# EAGLE library part RASPBERRY-PI_REV2 (library RaspberryPi)
Raspberry Pi Board <http://www.raspberrypi.org/> Jacques Lagnel V1.0 (beta) 2012 Mateusz Bawaj V1.1 (beta) 2012 Board dimension: Forum 3D model <http://www.raspberrypi.org/forum/general-discussion/mechanical-profile-3d-models?value=3d%20model&type=1&include=1&search=1&ret=all> The GPIO Connector (P1): http://elinux.org/RPi_Low-level_peripherals The GPIO Connector (P5): http://www.raspberrypi-spy.co.uk/2012/09/raspberry-pi-p5-header/
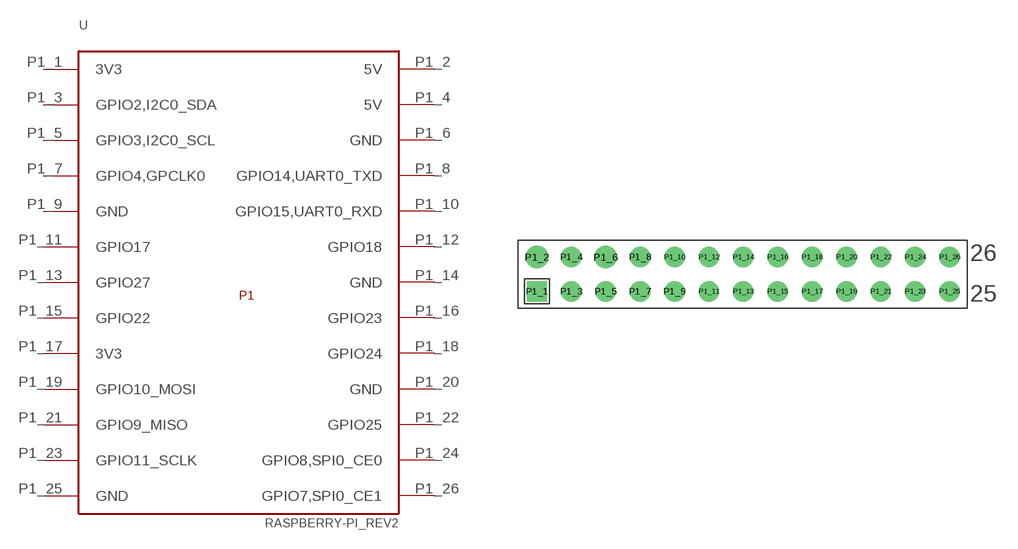
[diagram p0: symbol with the pads of RASPBERRY-PI_REV2; footprint RASPBERRY-PI_REV2]

Designator prefix -

## RASPBERRY-PI_REV2  [RASPBERRY-PI_REV2]
P1_1  3V3
P1_2  5V
P1_3  GPIO2,I2C0_SDA
P1_4  5V
P1_5  GPIO3,I2C0_SCL
P1_6  GND
P1_7  GPIO4,GPCLK0
P1_8  GPIO14,UART0_TXD
P1_9  GND
P1_10  GPIO15,UART0_RXD
P1_11  GPIO17
P1_12  GPIO18
P1_13  GPIO27
P1_14  GND
P1_15  GPIO22
P1_16  GPIO23
P1_17  3V3
P1_18  GPIO24
P1_19  GPIO10_MOSI
P1_20  GND
P1_21  GPIO9_MISO
P1_22  GPIO25
P1_23  GPIO11_SCLK
P1_24  GPIO8,SPI0_CE0
P1_25  GND
P1_26  GPIO7,SPI0_CE1

## Footprint RASPBERRY-PI_REV2 (pad centres in mm)
drill 1 square: P1_1 -17.78,-1.27
drill 1 pad 1.676: P1_2 -17.78,1.27; P1_6 -12.7,1.27
drill 1: P1_3 -15.24,-1.27; P1_4 -15.24,1.27; P1_5 -12.7,-1.27; P1_7 -10.16,-1.27; P1_8 -10.16,1.27; P1_9 -7.62,-1.27; P1_10 -7.62,1.27; P1_11 -5.08,-1.27; P1_12 -5.08,1.27; P1_13 -2.54,-1.27; P1_14 -2.54,1.27; P1_15 0,-1.27; P1_16 0,1.27; P1_17 2.54,-1.27; P1_18 2.54,1.27; P1_19 5.08,-1.27; P1_20 5.08,1.27; P1_21 7.62,-1.27; P1_22 7.62,1.27; P1_23 10.16,-1.27; P1_24 10.16,1.27; P1_25 12.7,-1.27; P1_26 12.7,1.27